# EAGLE library part DF13-10P-D (library con-Hirose)
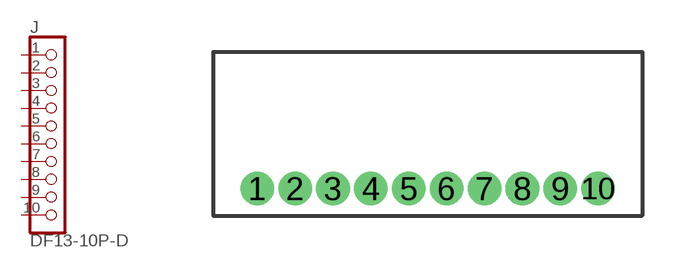
[diagram p9: symbol with the pads of DF13-10P-1.25DS; footprint DF13-10P-1.25DS]

Designator prefix J

## DF13-10P-DH  [DF13-10P-1.25DS]
1  1  pas
2  2  pas
3  3  pas
4  4  pas
5  5  pas
6  6  pas
7  7  pas
8  8  pas
9  9  pas
10  10  pas

## Footprint DF13-10P-1.25DS (pad centres in mm)
drill 0.6: 1 -5.625,-1.8; 2 -4.375,-1.8; 3 -3.125,-1.8; 4 -1.875,-1.8; 5 -0.625,-1.8; 6 0.625,-1.8; 7 1.875,-1.8; 8 3.125,-1.8; 9 4.375,-1.8; 10 5.625,-1.8